# Altium footprint library PDC1530B0001.PcbLib: 1 footprints
Each footprint in its own frame and in the unit in brackets; x right, y up, seen from the top. Pads: shape width x height; smd on the part's side, far side on the other; paste and mask are expansions set on the pad; w line width, h text height; cw(c..) or ccw(c..) is an arc to the next point about the centre after c.
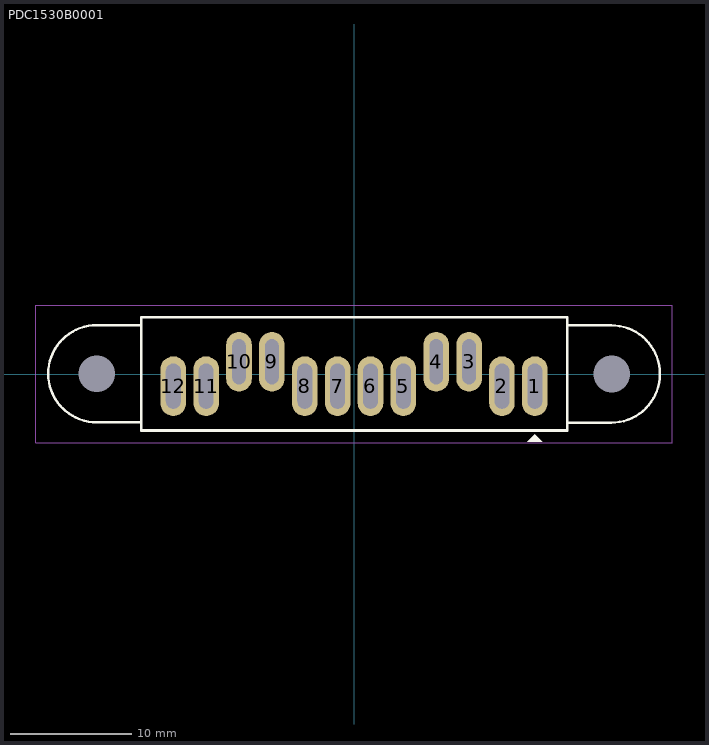
[diagram p0: the footprint, top view; thin cyan lines are the x and y axes]

## PDC1530B0001 [mm]
pads (14):
  round 0 hole 3 unplated: 0(-21.152,0.023) 0(21.147,0)
  rrect100% 2.1x4.9 hole 1.2 slot 3.7 at 90 deg: 1(14.844,-0.997) 2(12.144,-0.997) 5(4.044,-0.997) 6(1.344,-0.997) 7(-1.356,-0.997) 8(-4.056,-0.997) 11(-12.156,-0.997) 12(-14.856,-0.997)
  rrect100% 2.1x4.9 hole 1.1 slot 3.7 at 90 deg: 3(9.444,1.003) 4(6.744,1.003) 9(-6.756,1.003) 10(-9.456,1.003)
Top Overlay:
  region: 15.473,-5.575 14.216,-5.575 14.844,-4.947
  lines w0.2: -17.506,-3.977 -21.128,-3.977 cw(c-21.128,0.023) -25.128,0.023 cw(c-21.128,0.023) -21.128,4.023 -17.506,4.023 ; 17.5,-4.25 17.5,-4.2 ; 17.5,-4 21.123,-4 ccw(c21.123,0) 25.123,0 ccw(c21.123,0) 21.123,4 17.5,4 ; -17.506,-4.628 -17.506,4.672 17.494,4.672 17.494,-4.628 -17.506,-4.628 ; -17.5,-4.65 17.5,-4.65 17.5,4.65 -17.5,4.65 -17.5,-4.65
Top Courtyard:
  lines w0.1: -26.15,-5.65 -26.15,5.65 26.129,5.65 26.129,-5.65 -17.725,-5.65 -26.15,-5.65
3D body "SPCBT0051.STEP": height 10, standoff -4.8, extent -25.15,-4.65 25.128,4.65